# EAGLE library part DRV8806 (library apollo-ctrl-v4)
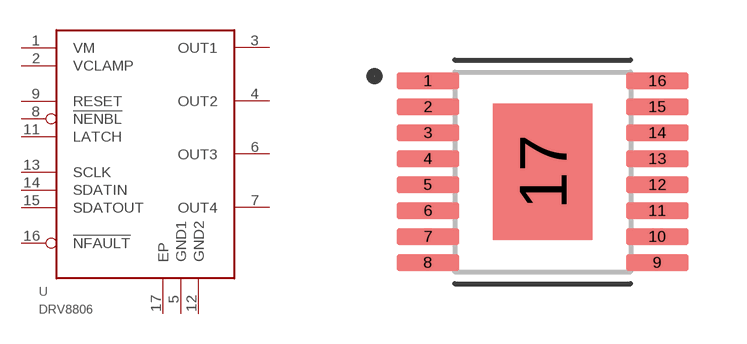
[diagram p20: symbol with the pads of SOP65P640X120-17N; footprint SOP65P640X120-17N]

Designator prefix U

## DRV8806-SSOP  [SOP65P640X120-17N]
1  VM  in
2  VCLAMP  in
3  OUT1  out
4  OUT2  out
5  GND1  in
6  OUT3  out
7  OUT4  out
8  !NENBL  in
9  RESET  in
11  LATCH  in
12  GND2  in
13  SCLK  in
14  SDATIN  in
15  SDATOUT  out
16  !NFAULT  out
17  EP  in

## Footprint SOP65P640X120-17N (pad centres in mm)
smd 1.57 x 0.41: 1 -2.87,2.275; 2 -2.87,1.625; 3 -2.87,0.975; 4 -2.87,0.325; 5 -2.87,-0.325; 6 -2.87,-0.975; 7 -2.87,-1.625; 8 -2.87,-2.275; 9 2.87,-2.275; 10 2.87,-1.625; 11 2.87,-0.975; 12 2.87,-0.325; 13 2.87,0.325; 14 2.87,0.975; 15 2.87,1.625; 16 2.87,2.275
smd 2.48 x 3.4: 17 0,0